# Altium integrated library MAX14595ETA&plus_.IntLib: 2 symbols
Pins are listed as number, name and electrical type; pins without a type are passive.

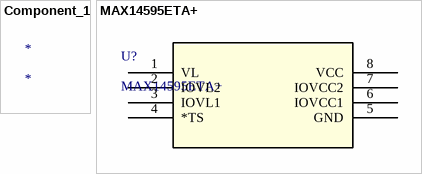
[diagram p0: symbols Component_1 to MAX14595ETA+]

## Component_1
designator *

## MAX14595ETA+
designator U?
No Description Available; Mfr_Name: Analog Devices Inc; Copyright: Copyright (C) 2023 Ultra Librarian. All rights reserved.; Manufacturer_Part_Number: MAX14595ETA+; RefDes: RefDes; Type: DEV
footprint 21-0487_T822CN+1_MXM
pins: 1 VL (power), 2 IOVL2, 3 IOVL1, 4 *TS, 5 GND (power), 6 IOVCC1, 7 IOVCC2, 8 VCC (power)